# EAGLE library part D.1.PICKIT-2-CONNECTOR (library pickit-2-connector)
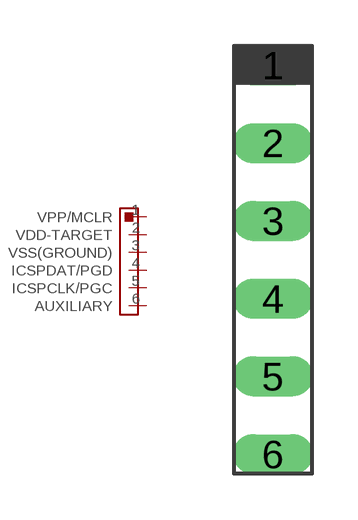
[diagram p0: symbol with the pads of P.1.PICKIT-CONNECTOR; footprint P.1.PICKIT-CONNECTOR]

Designator prefix -

## D.1.PICKIT-2-CONNECTOR  [P.1.PICKIT-CONNECTOR]
1  VPP/MCLR
2  VDD-TARGET
3  VSS(GROUND)
4  ICSPDAT/PGD
5  ICSPCLK/PGC
6  AUXILIARY

## Footprint P.1.PICKIT-CONNECTOR (pad centres in mm)
drill 0.8 long: 1 0,6.35; 2 0,3.81; 3 0,1.27; 4 0,-1.27; 5 0,-3.81; 6 0,-6.35